# Altium footprint library LED_PcbLib1.PcbLib: 3 footprints
Each footprint in its own frame and in the unit in brackets; x right, y up, seen from the top. Pads: shape width x height; smd on the part's side, far side on the other; paste and mask are expansions set on the pad; w line width, h text height; cw(c..) or ccw(c..) is an arc to the next point about the centre after c.
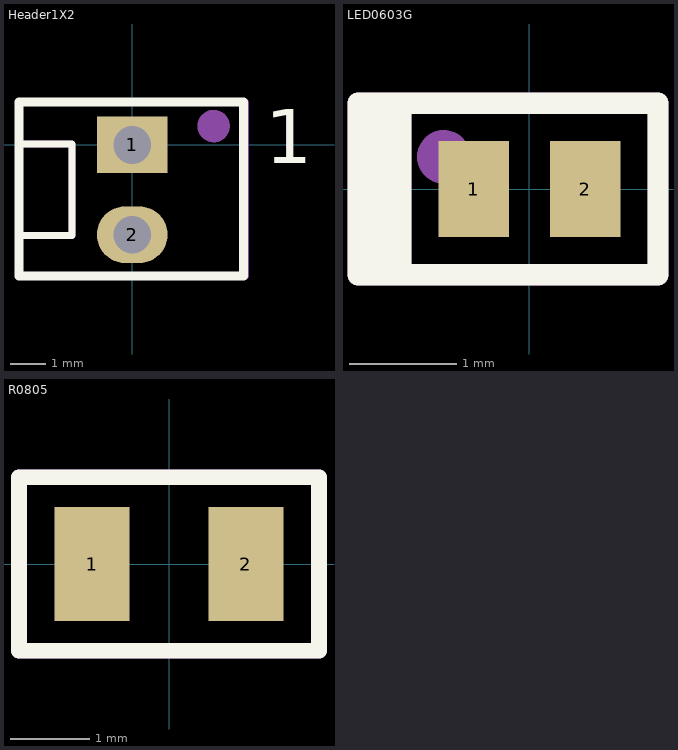
[diagram p0: the footprints below, top view; thin cyan lines are the x and y axes]

## Header1X2 [mm]
pads (2):
  rect 2x1.6 hole 1.07: 1(0,0)
  oval 2x1.6 hole 1.07: 2(0,-2.54)
Top Overlay:
  lines w0.2: -3.2,-2.57 -1.7,-2.556 -1.7,0.016 -3.2,0.03
  lines w0.254: -3.199,-3.713 -3.199,1.217 ; -3.199,-3.713 3.151,-3.713 ; -3.199,-3.713 -3.199,1.217 ; -3.199,-3.713 3.151,-3.713 ; -3.199,1.217 3.151,1.217 ; -3.199,1.217 3.151,1.217 ; 3.151,-3.713 3.151,1.217 ; 3.151,-3.713 3.151,1.217
  text "1" at 3.754,-0.516 h1.52
Mechanical 29:
  circle w0.508: c2.3,0.53 r0.203
  lines w0.2: -3.2,-2.57 -3.2,0.03 ; -3.2,-2.57 -1.7,-2.556 -1.7,0.016 -3.2,0.03 ; -3.2,-2.57 -3.2,-3.7 3.2,-3.7 3.2,1.2 -3.2,1.2 -3.2,0.03
  text ".Designator" at -2.8,-1.7 h1.2
3D body "0022232021.stp": height 10.68, standoff -3.54, extent -3.199,-3.734 3.151,1.194

## LED0603G [mm]
pads (2):
  rect 0.66x0.9 smd: 1(-0.52,0) 2(0.52,0)
Top Overlay:
  rectangle: -1.6,-0.9 -1.1,0.9
  lines w0.2: -1.6,-0.8 1.2,-0.8 1.2,0.8 -1.6,0.8 -1.6,-0.8
Mechanical 29:
  circle w0.3: c-0.8,0.3 r0.1
  rectangle: -1.6,-0.9 -1.1,0.9
  lines w0.2: -1.6,-0.8 1.2,-0.8 1.2,0.8 -1.6,0.8 -1.6,-0.8
  text ".Designator" at 0.3,-0.267 h0.7
3D body "User Library-SMD LED 0603.step": height 0.4, standoff 0.01, extent -0.8,-0.4 0.8,0.4

## R0805 [mm]
pads (2):
  rect 0.95x1.45 smd: 1(-0.975,0) 2(0.975,0)
Top Overlay:
  lines w0.2: -1.9,-1.1 -1.9,1.1 1.9,1.1 1.9,-1.1 -1.9,-1.1
Mechanical 29:
  lines w0.2: -1.9,-1.1 -1.9,1.1 1.9,1.1 1.9,-1.1 -1.9,-1.1
  text ".Designator" at -1.7,-0.267 h0.7
3D body "User Library-CR2012-0805.step": height 0.61, standoff 0.01, extent -1,-0.625 1,0.625